# EAGLE library part MCV10 (library con-phoenix-381_l)
Mini-Combicon 3.81mm vertikal 10polig (ohne Gegenstecker)
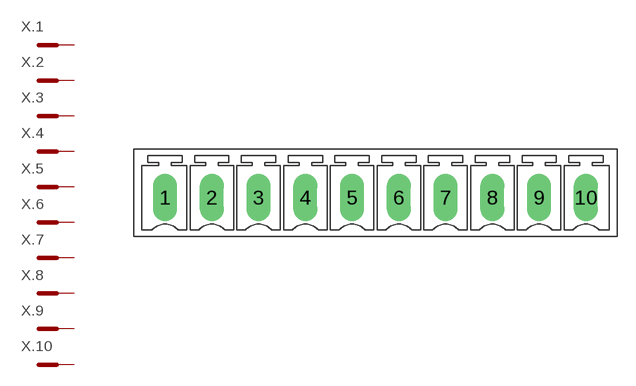
[diagram p4: symbol with the pads of MCV10; footprint MCV10]

Designator prefix X; gates .1=MCST .2=MCST .3=MCST .4=MCST .5=MCST .6=MCST .7=MCST .8=MCST .9=MCST .10=MCST

## MCV10  [MCV10]
1  .1:SK  pas
2  .2:SK  pas
3  .3:SK  pas
4  .4:SK  pas
5  .5:SK  pas
6  .6:SK  pas
7  .7:SK  pas
8  .8:SK  pas
9  .9:SK  pas
10  .10:SK  pas

## Footprint MCV10 (pad centres in mm)
Mini-Combicon 3.81mm vertikal 10-polig (ohne Gegenstecker)
drill 1.3 pad 1.905 long: 1 -17.145,0; 2 -13.335,0; 3 -9.525,0; 4 -5.715,0; 5 -1.905,0; 6 1.905,0; 7 5.715,0; 8 9.525,0; 9 13.335,0; 10 17.145,0